# Altium footprint library 主控制.PcbLib: 139 footprints (part 1 of 9)
Each footprint in its own frame and in the unit in brackets; x right, y up, seen from the top. Pads: shape width x height; smd on the part's side, far side on the other; paste and mask are expansions set on the pad; w line width, h text height; cw(c..) or ccw(c..) is an arc to the next point about the centre after c.
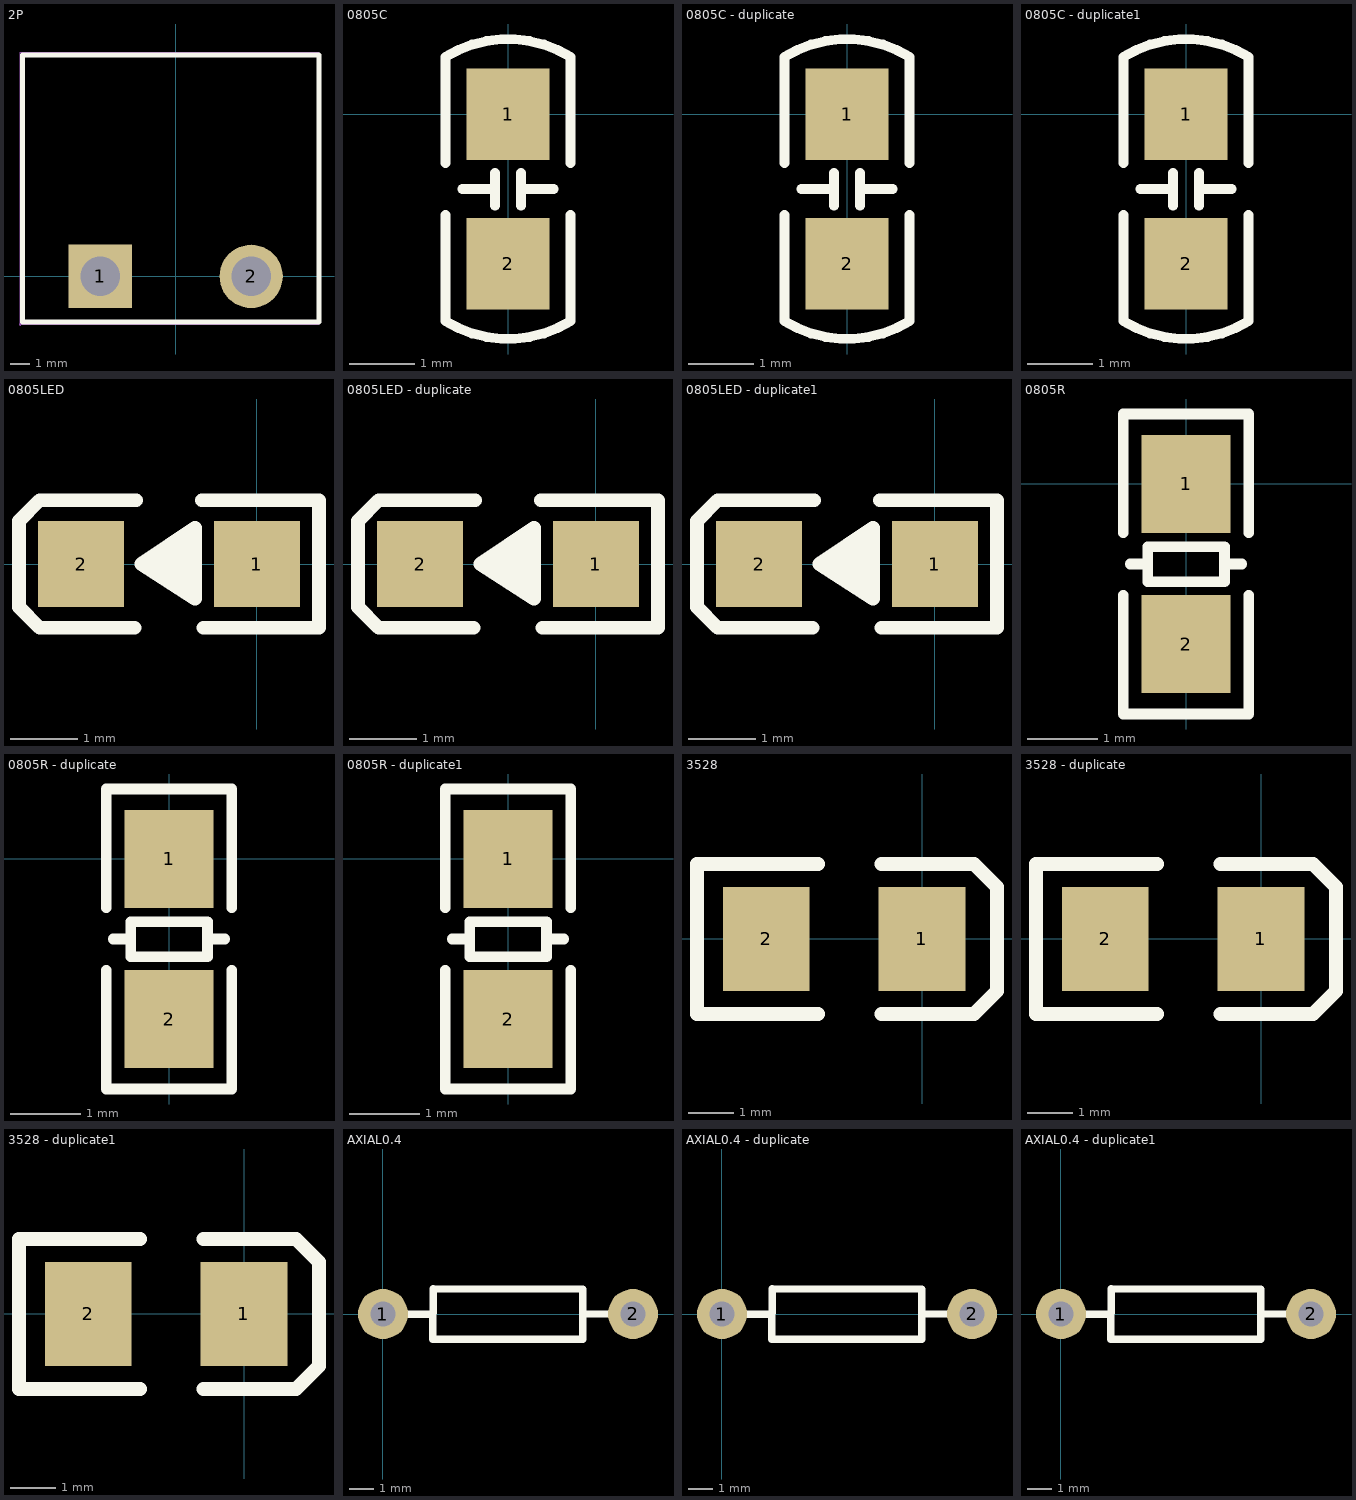
[diagram p0: the footprints below, top view; thin cyan lines are the x and y axes]

## 2P [mm]
pads (2):
  rect 3.21x3.2 hole 2 paste+0 mask+0.051: 1(-3.81,0)
  round 3.2 hole 2 paste+0 mask+0.051: 2(3.81,0)
Top Overlay:
  lines w0.254: -7.735,-2.305 -7.735,11.195 7.239,11.195 7.239,-2.305 -7.735,-2.305
Mechanical 15:
  region: 4.71,0 4.71,0.118 4.649,0.347 4.53,0.553 4.363,0.72 4.157,0.839 3.928,0.9 3.692,0.9 3.463,0.839 3.257,0.72 3.09,0.553 2.971,0.347 2.91,0.118 2.91,0 2.91,-0.118 2.971,-0.347 3.09,-0.553 3.257,-0.72 3.463,-0.839 3.692,-0.9 3.928,-0.9 4.157,-0.839 4.363,-0.72 4.53,-0.553 4.649,-0.347 4.71,-0.118
  region: -2.91,0 -2.91,0.118 -2.971,0.347 -3.09,0.553 -3.257,0.72 -3.463,0.839 -3.692,0.9 -3.928,0.9 -4.157,0.839 -4.363,0.72 -4.53,0.553 -4.649,0.347 -4.71,0.118 -4.71,0 -4.71,-0.118 -4.649,-0.347 -4.53,-0.553 -4.363,-0.72 -4.157,-0.839 -3.928,-0.9 -3.692,-0.9 -3.463,-0.839 -3.257,-0.72 -3.09,-0.553 -2.971,-0.347 -2.91,-0.118
  region: -7.802,-2.432 -7.802,-2.407 -7.837,-2.372 -7.887,-2.372 -7.922,-2.407 -7.922,-2.432 -7.922,-2.457 -7.887,-2.492 -7.837,-2.492 -7.802,-2.457
  lines w0.051: -7.862,-2.432 7.239,-2.432 7.239,11.322 -7.862,11.322 -7.862,-2.432

## 0805C [mm]
pads (2):
  rect 1.27x1.4 smd: 1(0,0) 2(0,-2.286)
Top Overlay:
  lines w0.15: -0.954,-1.54 -0.954,-3.162 ccw(c0,-1.636) 0.954,-3.162 0.954,-1.54 ; -0.954,-0.746 -0.954,0.876 cw(c0,-0.65) 0.954,0.876 0.954,-0.746 ; -0.7,-1.143 -0.2,-1.143 ; -0.2,-1.4 -0.2,-0.9 ; 0.2,-1.4 0.2,-0.9 ; 0.2,-1.143 0.7,-1.143

## 0805C - duplicate [mm]
pads (2):
  rect 1.27x1.4 smd: 1(0,0) 2(0,-2.286)
Top Overlay:
  lines w0.15: -0.954,-1.54 -0.954,-3.162 ccw(c0,-1.636) 0.954,-3.162 0.954,-1.54 ; -0.954,-0.746 -0.954,0.876 cw(c0,-0.65) 0.954,0.876 0.954,-0.746 ; -0.7,-1.143 -0.2,-1.143 ; -0.2,-1.4 -0.2,-0.9 ; 0.2,-1.4 0.2,-0.9 ; 0.2,-1.143 0.7,-1.143

## 0805C - duplicate1 [mm]
pads (2):
  rect 1.27x1.4 smd: 1(0,0) 2(0,-2.286)
Top Overlay:
  lines w0.15: -0.954,-1.54 -0.954,-3.162 ccw(c0,-1.636) 0.954,-3.162 0.954,-1.54 ; -0.954,-0.746 -0.954,0.876 cw(c0,-0.65) 0.954,0.876 0.954,-0.746 ; -0.7,-1.143 -0.2,-1.143 ; -0.2,-1.4 -0.2,-0.9 ; 0.2,-1.4 0.2,-0.9 ; 0.2,-1.143 0.7,-1.143

## 0805LED [mil]
pads (2):
  rect 50x50 smd: 1(0,0) 2(-102,0)
Top Overlay:
  lines w8: -71,-37 -126,-37 -138,-25 -138,25 -126,37 -70,37 ; -36,-11 -47,-6 ; -36,10 -48,10 ; -32,37 36,37 36,-37 -31,-37 ; -48,10 -57,2 -47,-6 ; -48,10 -47,-6 ; -48,10 -36,-4 -47,-6 ; -47,-6 -36,21 ; -36,21 -36,-20 -67,0 -36,21

## 0805LED - duplicate [mil]
pads (2):
  rect 50x50 smd: 1(0,0) 2(-102,0)
Top Overlay:
  lines w8: -71,-37 -126,-37 -138,-25 -138,25 -126,37 -70,37 ; -36,-11 -47,-6 ; -36,10 -48,10 ; -32,37 36,37 36,-37 -31,-37 ; -48,10 -57,2 -47,-6 ; -48,10 -47,-6 ; -48,10 -36,-4 -47,-6 ; -47,-6 -36,21 ; -36,21 -36,-20 -67,0 -36,21

## 0805LED - duplicate1 [mil]
pads (2):
  rect 50x50 smd: 1(0,0) 2(-102,0)
Top Overlay:
  lines w8: -71,-37 -126,-37 -138,-25 -138,25 -126,37 -70,37 ; -36,-11 -47,-6 ; -36,10 -48,10 ; -32,37 36,37 36,-37 -31,-37 ; -48,10 -57,2 -47,-6 ; -48,10 -47,-6 ; -48,10 -36,-4 -47,-6 ; -47,-6 -36,21 ; -36,21 -36,-20 -67,0 -36,21

## 0805R [mm]
pads (2):
  rect 1.27x1.4 smd: 1(0,0) 2(0,-2.286)
Top Overlay:
  lines w0.15: -0.9,-1.586 -0.9,-3.286 0.9,-3.286 0.9,-1.586 ; -0.9,-0.7 -0.9,1 0.9,1 0.9,-0.7 ; -0.8,-1.143 -0.55,-1.143 ; 0.55,-1.143 0.8,-1.143 ; -0.55,-1.4 -0.55,-0.9 0.55,-0.9 0.55,-1.4 -0.55,-1.4

## 0805R - duplicate [mm]
pads (2):
  rect 1.27x1.4 smd: 1(0,0) 2(0,-2.286)
Top Overlay:
  lines w0.15: -0.9,-1.586 -0.9,-3.286 0.9,-3.286 0.9,-1.586 ; -0.9,-0.7 -0.9,1 0.9,1 0.9,-0.7 ; -0.8,-1.143 -0.55,-1.143 ; 0.55,-1.143 0.8,-1.143 ; -0.55,-1.4 -0.55,-0.9 0.55,-0.9 0.55,-1.4 -0.55,-1.4

## 0805R - duplicate1 [mm]
pads (2):
  rect 1.27x1.4 smd: 1(0,0) 2(0,-2.286)
Top Overlay:
  lines w0.15: -0.9,-1.586 -0.9,-3.286 0.9,-3.286 0.9,-1.586 ; -0.9,-0.7 -0.9,1 0.9,1 0.9,-0.7 ; -0.8,-1.143 -0.55,-1.143 ; 0.55,-1.143 0.8,-1.143 ; -0.55,-1.4 0.55,-1.4 0.55,-0.9 -0.55,-0.9 -0.55,-1.4

## 3528 [mil]
pads (2):
  rect 75x90 smd: 1(0,0) 2(-135,0)
Top Overlay:
  lines w12: -90,-65 -195,-65 -195,65 -90,65 ; -35,-65 45,-65 65,-45 65,45 45,65 -35,65

## 3528 - duplicate [mil]
pads (2):
  rect 75x90 smd: 1(0,0) 2(-135,0)
Top Overlay:
  lines w12: -90,-65 -195,-65 -195,65 -90,65 ; -35,-65 45,-65 65,-45 65,45 45,65 -35,65

## 3528 - duplicate1 [mil]
pads (2):
  rect 75x90 smd: 1(0,0) 2(-135,0)
Top Overlay:
  lines w12: -90,-65 -195,-65 -195,65 -90,65 ; -35,-65 45,-65 65,-45 65,45 45,65 -35,65

## AXIAL0.4 [mil]
pads (2):
  round 80 hole 40: 1(0,0) 2(400,0)
Top Overlay:
  lines w12: 0,0 80,0 ; 320,0 400,0 ; 80,-40 320,-40 320,40 80,40 80,-40

## AXIAL0.4 - duplicate [mil]
pads (2):
  round 80 hole 40: 1(0,0) 2(400,0)
Top Overlay:
  lines w12: 0,0 80,0 ; 320,0 400,0 ; 80,-40 320,-40 320,40 80,40 80,-40

## AXIAL0.4 - duplicate1 [mil]
pads (2):
  round 80 hole 40: 1(0,0) 2(400,0)
Top Overlay:
  lines w12: 0,0 80,0 ; 320,0 400,0 ; 80,-40 320,-40 320,40 80,40 80,-40